# EAGLE library part TDA7053A (library My Library)
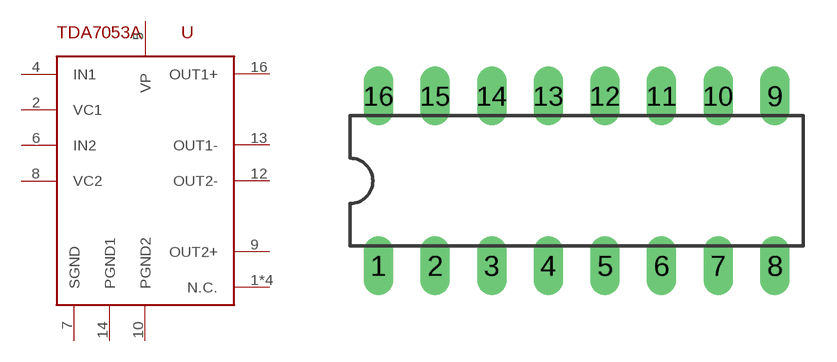
[diagram p8: symbol with the pads of DIL16; footprint DIL16]

Designator prefix -

## TDA7053A  [DIL16]
1  N.C.  nc
2  VC1  in
3  N.C.  nc
4  IN1  in
5  VP
6  IN2  in
7  SGND  pwr
8  VC2  in
9  OUT2+  out
10  PGND2  pwr
11  N.C.  nc
12  OUT2-  out
13  OUT1-  out
14  PGND1  pwr
15  N.C.  nc
16  OUT1+  out

## Footprint DIL16 (pad centres in mm)
Dual In Line Package
drill 0.813 long: 1 -8.89,-3.81; 2 -6.35,-3.81; 3 -3.81,-3.81; 4 -1.27,-3.81; 5 1.27,-3.81; 6 3.81,-3.81; 7 6.35,-3.81; 8 8.89,-3.81; 9 8.89,3.81; 10 6.35,3.81; 11 3.81,3.81; 12 1.27,3.81; 13 -1.27,3.81; 14 -3.81,3.81; 15 -6.35,3.81; 16 -8.89,3.81